# EAGLE library part HX711_BREAKOUT (library HX711_Breakout)
HX711_Breakout
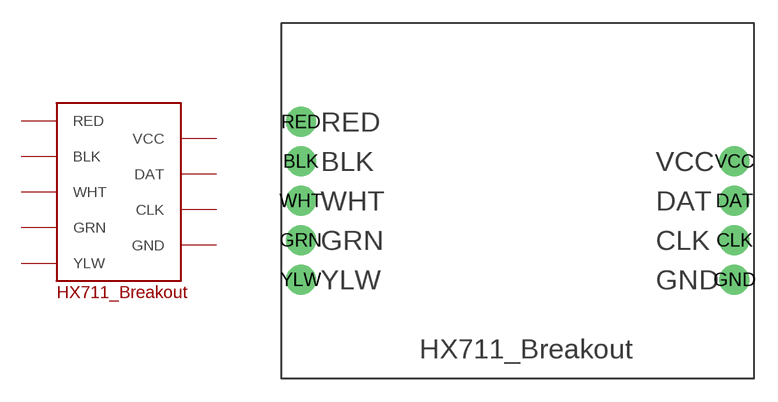
[diagram p0: symbol with the pads of HX711_BREAKOUT_PACKAGE; footprint HX711_BREAKOUT_PACKAGE]

Designator prefix -

## HX711_BREAKOUT  [HX711_BREAKOUT_PACKAGE]
BLK  BLK
CLK  CLK
DAT  DAT
GND  GND
GRN  GRN
RED  RED
VCC  VCC
WHT  WHT
YLW  YLW

## Footprint HX711_BREAKOUT_PACKAGE (pad centres in mm)
HX711_Breakout
drill 0.9 pad 1.93: BLK 1.27,13.97; CLK 29.21,8.89; DAT 29.21,11.43; GND 29.21,6.35; GRN 1.27,8.89; RED 1.27,16.51; VCC 29.21,13.97; WHT 1.27,11.43; YLW 1.27,6.35